# Altium schematic symbol library i2c_io_expander.SchLib: 80 symbols (part 2 of 3)
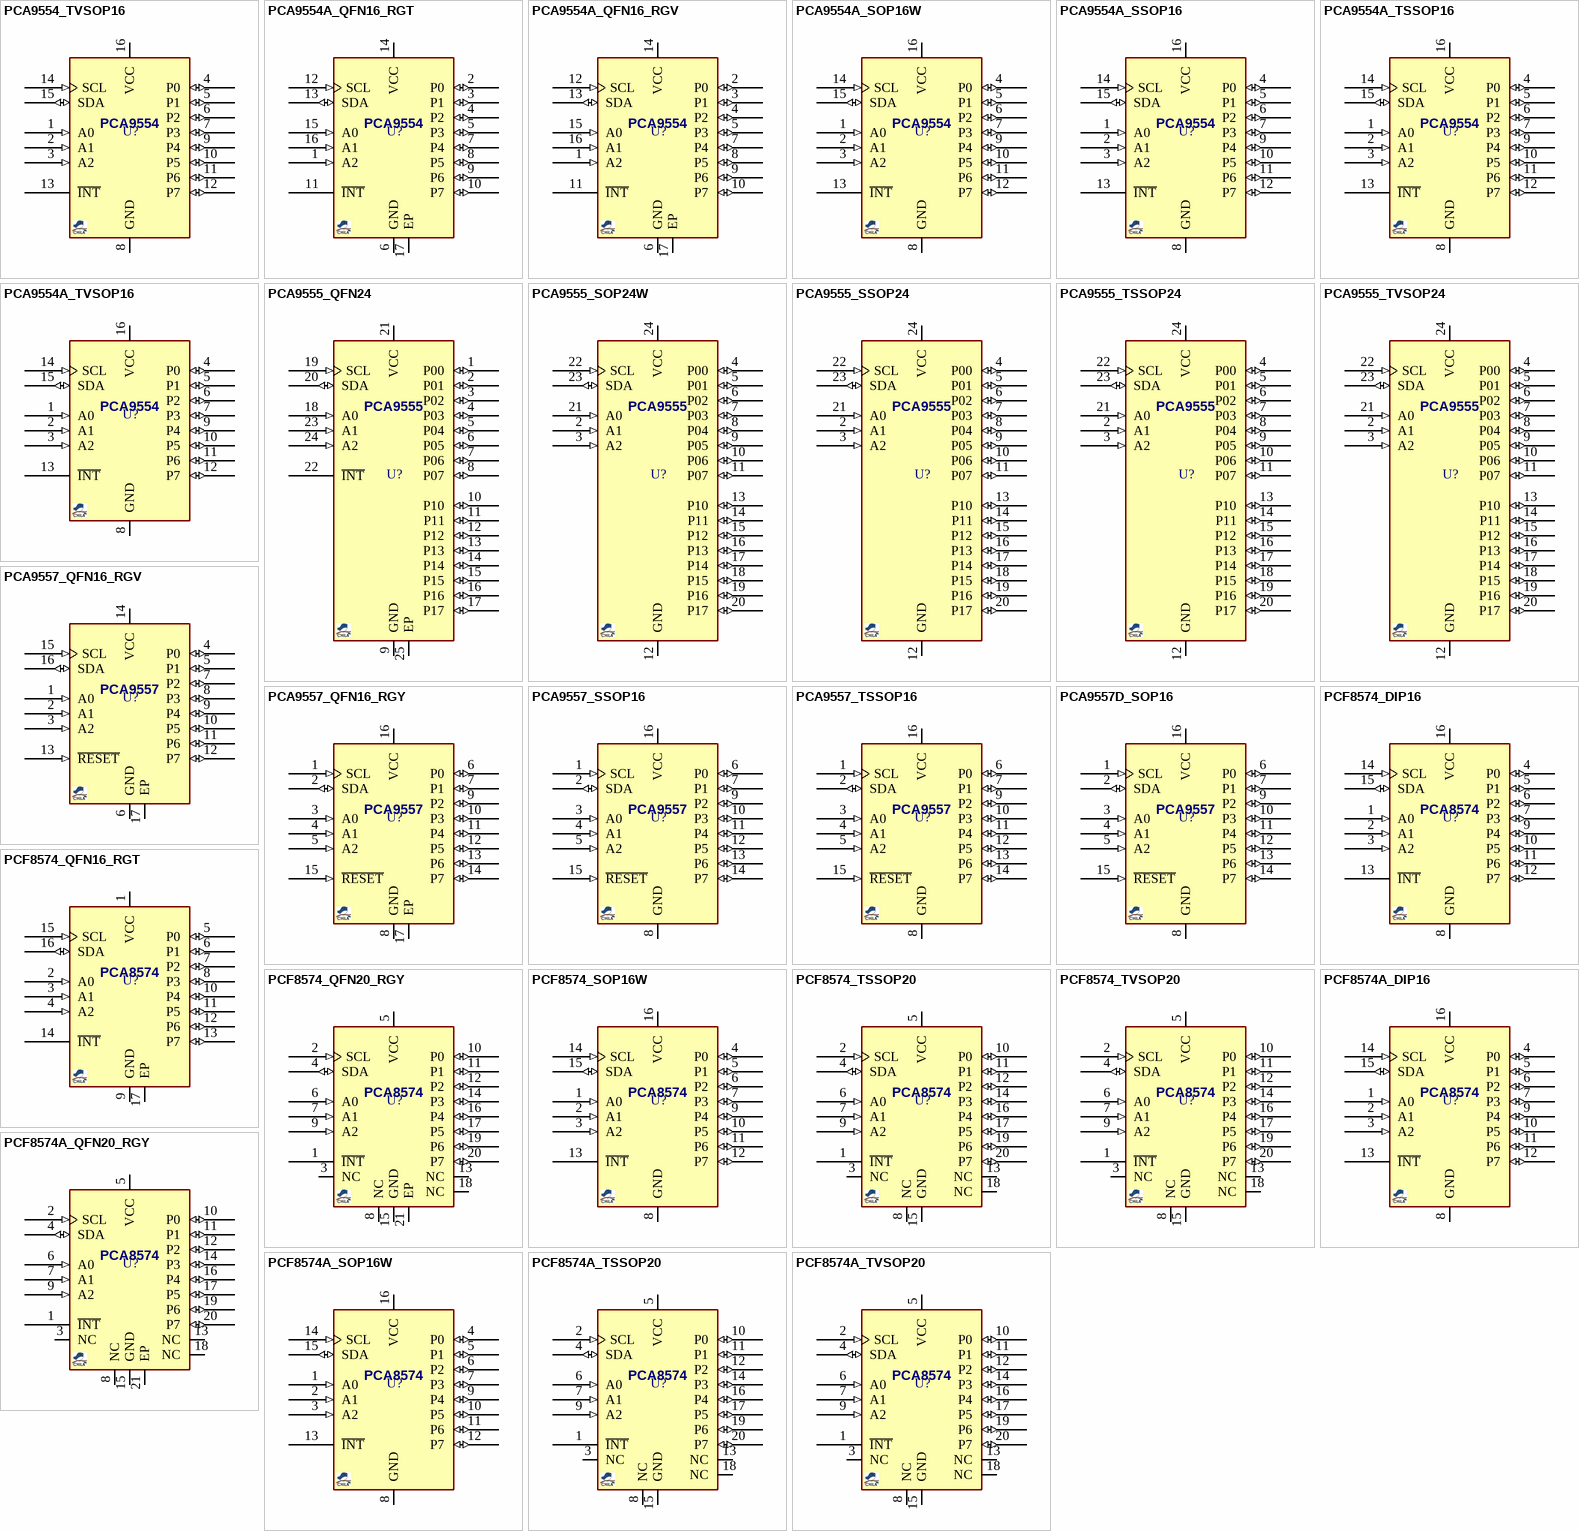
[diagram p4: symbols PCA9554_TVSOP16 to PCF8574A_TVSOP20]

## PCA9555_TSSOP24
designator U?, comment PCA9555  (value not drawn)
IC, I2C IO Expander, 16CH, 5V TOL, 400KHz; MANF: Texas Instruments; MANF_P#: PCA9555PW; PARAM2: 2.3~5.5VCC; PARAM: 16CH, 5V TOL, 400KHz, -40~85oC; VALUE: PCA9555
footprint SOG65_24 (PW TSSOP (TI), MO-153-AD (JEDEC), 24Lead, pitch: 0.65mm, 8x4.4x1.2mm)
pins: 2 A1 (in) "Address input 1. Connect directly to VCC or ground.", 3 A2 (in) "Address input 2. Connect directly to VCC or ground.", 4 P00 (io) "P-port input/output. Push-pull design structure.", 5 P01 (io) "P-port input/output. Push-pull design structure.", 6 P02 (io) "P-port input/output. Push-pull design structure.", 7 P03 (io) "P-port input/output. Push-pull design structure.", 8 P04 (io) "P-port input/output. Push-pull design structure.", 9 P05 (io) "P-port input/output. Push-pull design structure.", 10 P06 (io) "P-port input/output. Push-pull design structure.", 11 P07 (io) "P-port input/output. Push-pull design structure.", 12 GND (power) "Ground", 13 P10 (io) "P-port input/output. Push-pull design structure.", 14 P11 (io) "P-port input/output. Push-pull design structure.", 15 P12 (io) "P-port input/output. Push-pull design structure.", 16 P13 (io) "P-port input/output. Push-pull design structure.", 17 P14 (io) "P-port input/output. Push-pull design structure.", 18 P15 (io) "P-port input/output. Push-pull design structure.", 19 P16 (io) "P-port input/output. Push-pull design structure.", 20 P17 (io) "P-port input/output. Push-pull design structure.", 21 A0 (in) "Address input 0. Connect directly to VCC or ground.", 22 SCL (in) "Serial clock bus. Connect to VCC through a pullup resistor.", 23 SDA (io) "Serial data bus. Connect to VCC through a pullup resistor.", 24 VCC (power) "Supply voltage"

## PCA9555_TVSOP24
designator U?, comment PCA9555  (value not drawn)
IC, I2C IO Expander, 16CH, 5V TOL, 400KHz; MANF: Texas Instruments; MANF_P#: PCA9555DGV; PARAM2: 2.3~5.5VCC; PARAM: 16CH, 5V TOL, 400KHz, -40~85oC; VALUE: PCA9555
footprint SOG40_24
pins: 2 A1 (in) "Address input 1. Connect directly to VCC or ground.", 3 A2 (in) "Address input 2. Connect directly to VCC or ground.", 4 P00 (io) "P-port input/output. Push-pull design structure.", 5 P01 (io) "P-port input/output. Push-pull design structure.", 6 P02 (io) "P-port input/output. Push-pull design structure.", 7 P03 (io) "P-port input/output. Push-pull design structure.", 8 P04 (io) "P-port input/output. Push-pull design structure.", 9 P05 (io) "P-port input/output. Push-pull design structure.", 10 P06 (io) "P-port input/output. Push-pull design structure.", 11 P07 (io) "P-port input/output. Push-pull design structure.", 12 GND (power) "Ground", 13 P10 (io) "P-port input/output. Push-pull design structure.", 14 P11 (io) "P-port input/output. Push-pull design structure.", 15 P12 (io) "P-port input/output. Push-pull design structure.", 16 P13 (io) "P-port input/output. Push-pull design structure.", 17 P14 (io) "P-port input/output. Push-pull design structure.", 18 P15 (io) "P-port input/output. Push-pull design structure.", 19 P16 (io) "P-port input/output. Push-pull design structure.", 20 P17 (io) "P-port input/output. Push-pull design structure.", 21 A0 (in) "Address input 0. Connect directly to VCC or ground.", 22 SCL (in) "Serial clock bus. Connect to VCC through a pullup resistor.", 23 SDA (io) "Serial data bus. Connect to VCC through a pullup resistor.", 24 VCC (power) "Supply voltage"

## PCA9557_QFN16_RGV
designator U?, comment PCA9557  (value not drawn)
IC, I2C IO Expander, 8CH, 5V TOL, 400KHz; MANF: Texas Instruments; MANF_P#: PCA9557RGV; PARAM2: 2.3~5.5VCC; PARAM: 8CH, 5V TOL, 400KHz, -40~85oC; VALUE: PCA9557
footprint QFN65_16T (MO-220 VGGC, MO-220 WGGC-4(JEDEC), 4X4mm, 0.65mm)
pins: 1 A0 (in) "Address input. Connect directly to VCC or ground.", 2 A1 (in) "Address input. Connect directly to VCC or ground.", 3 A2 (in) "Address input. Connect directly to VCC or ground.", 4 P0 (io) "P-port input/output. High impedance open-drain design structure. Connect to VCC through a pullup resistor.", 5 P1 (io) "P-port input/output. Push-pull design structure.", 6 GND (power) "Ground", 7 P2 (io) "P-port input/output. Push-pull design structure.", 8 P3 (io) "P-port input/output. Push-pull design structure.", 9 P4 (io) "P-port input/output. Push-pull design structure.", 10 P5 (io) "P-port input/output. Push-pull design structure.", 11 P6 (io) "P-port input/output. Push-pull design structure.", 12 P7 (io) "P-port input/output. Push-pull design structure.", 13 ~{RESET} (in) "Active-low reset input. Connect to VCC  through a pullup resistor, if no active connection is used.", 14 VCC (power) "Supply voltage", 15 SCL (in) "Serial clock bus. Connect to VCC through a pullup resistor.", 16 SDA (io) "Serial data bus. Connect to VCC through a pullup resistor.", 17 EP "Exposed thermal pad"

## PCA9557_QFN16_RGY
designator U?, comment PCA9557  (value not drawn)
IC, I2C IO Expander, 8CH, 5V TOL, 400KHz; MANF: Texas Instruments; MANF_P#: PCA9557RGY; PARAM2: 2.3~5.5VCC; PARAM: 8CH, 5V TOL, 400KHz, -40~85oC; VALUE: PCA9557
footprint QFN50_16T_4X3 (VQFN-16 RGY 4X3.5mm, 0.5mm pitch)
pins: 1 SCL (in) "Serial clock bus. Connect to VCC through a pullup resistor.", 2 SDA (io) "Serial data bus. Connect to VCC through a pullup resistor", 3 A0 (in) "Address input. Connect directly to VCC or ground.", 4 A1 (in) "Address input. Connect directly to VCC or ground.", 5 A2 (in) "Address input. Connect directly to VCC or ground.", 6 P0 (io) "P-port input/output. High impedance open-drain design structure. Connect to VCC through a pullup resistor.", 7 P1 (io) "P-port input/output. Push-pull design structure.", 8 GND (power) "Ground", 9 P2 (io) "P-port input/output. Push-pull design structure", 10 P3 (io) "P-port input/output. Push-pull design structure", 11 P4 (io) "P-port input/output. Push-pull design structure", 12 P5 (io) "P-port input/output. Push-pull design structure", 13 P6 (io) "P-port input/output. Push-pull design structure", 14 P7 (io) "P-port input/output. Push-pull design structure", 15 ~{RESET} (in) "Active-low reset input. Connect to VCC through a pullup resistor if no active connection is used.", 16 VCC (power) "Supply voltage", 17 EP "Exposed pad"

## PCA9557_SSOP16
designator U?, comment PCA9557  (value not drawn)
IC, I2C IO Expander, 8CH, 5V TOL, 400KHz; MANF: Texas Instruments; MANF_P#: PCA9557DB; PARAM2: 2.3~5.5VCC; PARAM: 8CH, 5V TOL, 400KHz, -40~85oC; VALUE: PCA9557
footprint SOG65_16_W (SSOP16, SOT338-1, SOT403-1, RU-16, pitch: 0.65mm, 6x5.3mm, GN16, MO-150AC)
pins: 1 SCL (in) "Serial clock bus. Connect to VCC through a pullup resistor.", 2 SDA (io) "Serial data bus. Connect to VCC through a pullup resistor.", 3 A0 (in) "Address input. Connect directly to VCC or ground.", 4 A1 (in) "Address input. Connect directly to VCC or ground.", 5 A2 (in) "Address input. Connect directly to VCC or ground.", 6 P0 (io) "P-port input/output. High impedance open-drain design structure. Connect to VCC through a pullup resistor.", 7 P1 (io) "P-port input/output. Push-pull design structure.", 8 GND (power) "Ground", 9 P2 (io) "P-port input/output. Push-pull design structure.", 10 P3 (io) "P-port input/output. Push-pull design structure.", 11 P4 (io) "P-port input/output. Push-pull design structure.", 12 P5 (io) "P-port input/output. Push-pull design structure.", 13 P6 (io) "P-port input/output. Push-pull design structure.", 14 P7 (io) "P-port input/output. Push-pull design structure.", 15 ~{RESET} (in) "Active-low reset input. Connect to VCC  through a pullup resistor, if no active connection is used.", 16 VCC (power) "Supply voltage"

## PCA9557_TSSOP16
designator U?, comment PCA9557  (value not drawn)
IC, I2C IO Expander, 8CH, 5V TOL, 400KHz; MANF: Texas Instruments; MANF_P#: PCA9557PW; PARAM2: 2.3~5.5VCC; PARAM: 8CH, 5V TOL, 400KHz, -40~85oC; VALUE: PCA9557
footprint SOG65_16 (PW TSSOP (TI), MO-153-AB (JEDEC), 16Lead, pitch: 0.65mm, 5x4.4x1.2mm)
pins: 1 SCL (in) "Serial clock bus. Connect to VCC through a pullup resistor.", 2 SDA (io) "Serial data bus. Connect to VCC through a pullup resistor.", 3 A0 (in) "Address input. Connect directly to VCC or ground.", 4 A1 (in) "Address input. Connect directly to VCC or ground.", 5 A2 (in) "Address input. Connect directly to VCC or ground.", 6 P0 (io) "P-port input/output. High impedance open-drain design structure. Connect to VCC through a pullup resistor.", 7 P1 (io) "P-port input/output. Push-pull design structure.", 8 GND (power) "Ground", 9 P2 (io) "P-port input/output. Push-pull design structure.", 10 P3 (io) "P-port input/output. Push-pull design structure.", 11 P4 (io) "P-port input/output. Push-pull design structure.", 12 P5 (io) "P-port input/output. Push-pull design structure.", 13 P6 (io) "P-port input/output. Push-pull design structure.", 14 P7 (io) "P-port input/output. Push-pull design structure.", 15 ~{RESET} (in) "Active-low reset input. Connect to VCC  through a pullup resistor, if no active connection is used.", 16 VCC (power) "Supply voltage"

## PCA9557D_SOP16
designator U?, comment PCA9557  (value not drawn)
IC, I2C IO Expander, 8CH, 5V TOL, 400KHz; MANF: Texas Instruments; MANF_P#: PCA9557D; PARAM2: 2.3~5.5VCC; PARAM: 8CH, 5V TOL, 400KHz, -40~85oC; VALUE: PCA9557
footprint SO_16 (SOP, SOIC, 3.9mm width, 1.27mm pitch,)
pins: 1 SCL (in) "Serial clock bus. Connect to VCC through a pullup resistor.", 2 SDA (io) "Serial data bus. Connect to VCC through a pullup resistor.", 3 A0 (in) "Address input. Connect directly to VCC or ground.", 4 A1 (in) "Address input. Connect directly to VCC or ground.", 5 A2 (in) "Address input. Connect directly to VCC or ground.", 6 P0 (io) "P-port input/output. High impedance open-drain design structure. Connect to VCC through a pullup resistor.", 7 P1 (io) "P-port input/output. Push-pull design structure.", 8 GND (power) "Ground", 9 P2 (io) "P-port input/output. Push-pull design structure.", 10 P3 (io) "P-port input/output. Push-pull design structure.", 11 P4 (io) "P-port input/output. Push-pull design structure.", 12 P5 (io) "P-port input/output. Push-pull design structure.", 13 P6 (io) "P-port input/output. Push-pull design structure.", 14 P7 (io) "P-port input/output. Push-pull design structure.", 15 ~{RESET} (in) "Active-low reset input. Connect to VCC  through a pullup resistor, if no active connection is used.", 16 VCC (power) "Supply voltage"

## PCF8574_DIP16
designator U?, comment PCF8574  (value not drawn)
IC, I2C IO Expander, 8CH, 100KHz; MANF: Texas Instruments; MANF_P#: PCF8574N; PARAM2: 2.5~6.0VCC; PARAM: 8CH, 100KHz, -40~85oC; VALUE: PCF8574
footprint DIP_16 (DIP, pitch 2.54mm, 300mil Width)
pins: 1 A0 (in), 2 A1 (in), 3 A2 (in), 4 P0 (io), 5 P1 (io), 6 P2 (io), 7 P3 (io), 8 GND (power) "Ground", 9 P4 (io), 10 P5 (io), 11 P6 (io), 12 P7 (io), 13 ~{INT} (oc), 14 SCL (in), 15 SDA (io), 16 VCC (power) "Supply voltage"
text: PCA8574

## PCF8574_QFN16_RGT
designator U?, comment PCF8574  (value not drawn)
IC, I2C IO Expander, 8CH, 100KHz; MANF: Texas Instruments; MANF_P#: PCF8574RGT; PARAM2: 2.5~6.0VCC; PARAM: 8CH, 100KHz, -40~85oC; VALUE: PCF8574
footprint QFN50_16_3X3 (LPCC, 16-lead, pitch: 0.5mm, 3x3mm)
pins: 1 VCC (power), 2 A0 (in), 3 A1 (in), 4 A2 (in), 5 P0 (io), 6 P1 (io), 7 P2 (io), 8 P3 (io), 9 GND (power), 10 P4 (io), 11 P5 (io), 12 P6 (io), 13 P7 (io), 14 ~{INT} (oc), 15 SCL (in), 16 SDA (io), 17 EP
text: PCA8574

## PCF8574_QFN20_RGY
designator U?, comment PCF8574  (value not drawn)
IC, I2C IO Expander, 8CH, 100KHz; MANF: Texas Instruments; MANF_P#: PCF8574RGY; PARAM2: 2.5~6.0VCC; PARAM: 8CH, 100KHz, -40~85oC; VALUE: PCF8574
footprint QFN50_20T_4X3 (RGY VQFN-20, 0.5mm Pitch, 4.5x3.5x1mm)
pins: 1 ~{INT} (oc), 2 SCL (in), 3 NC, 4 SDA (io), 5 VCC (power), 6 A0 (in), 7 A1 (in), 8 NC, 9 A2 (in), 10 P0 (io), 11 P1 (io), 12 P2 (io), 13 NC, 14 P3 (io), 15 GND (power), 16 P4 (io), 17 P5 (io), 18 NC, 19 P6 (io), 20 P7 (io), 21 EP
text: PCA8574

## PCF8574_SOP16W
designator U?, comment PCF8574  (value not drawn)
IC, I2C IO Expander, 8CH, 100KHz; MANF: Texas Instruments; MANF_P#: PCF8574DW; PARAM2: 2.5~6.0VCC; PARAM: 8CH, 100KHz, -40~85oC; VALUE: PCF8574
footprint SO_16_W (SOP, SOIC, 7.5mm width, 1.27mm pitch,)
pins: 1 A0 (in), 2 A1 (in), 3 A2 (in), 4 P0 (io), 5 P1 (io), 6 P2 (io), 7 P3 (io), 8 GND (power) "Ground", 9 P4 (io), 10 P5 (io), 11 P6 (io), 12 P7 (io), 13 ~{INT} (oc), 14 SCL (in), 15 SDA (io), 16 VCC (power) "Supply voltage"
text: PCA8574

## PCF8574_TSSOP20
designator U?, comment PCF8574  (value not drawn)
IC, I2C IO Expander, 8CH, 100KHz; MANF: Texas Instruments; MANF_P#: PCF8574PW; PARAM2: 2.5~6.0VCC; PARAM: 8CH, 100KHz, -40~85oC; VALUE: PCF8574
footprint SOG65_20 (PW TSSOP (TI), MO-153-AC (JEDEC), 20Lead, pitch: 0.65mm, 6.5x4.4x1.2mm)
pins: 1 ~{INT} (oc), 2 SCL (in), 3 NC, 4 SDA (io), 5 VCC (power), 6 A0 (in), 7 A1 (in), 8 NC, 9 A2 (in), 10 P0 (io), 11 P1 (io), 12 P2 (io), 13 NC, 14 P3 (io), 15 GND (power), 16 P4 (io), 17 P5 (io), 18 NC, 19 P6 (io), 20 P7 (io)
text: PCA8574

## PCF8574_TVSOP20
designator U?, comment PCF8574  (value not drawn)
IC, I2C IO Expander, 8CH, 100KHz; MANF: Texas Instruments; MANF_P#: PCF8574DGV; PARAM2: 2.5~6.0VCC; PARAM: 8CH, 100KHz, -40~85oC; VALUE: PCF8574
footprint SOG40_20
pins: 1 ~{INT} (oc), 2 SCL (in), 3 NC, 4 SDA (io), 5 VCC (power), 6 A0 (in), 7 A1 (in), 8 NC, 9 A2 (in), 10 P0 (io), 11 P1 (io), 12 P2 (io), 13 NC, 14 P3 (io), 15 GND (power), 16 P4 (io), 17 P5 (io), 18 NC, 19 P6 (io), 20 P7 (io)
text: PCA8574

## PCF8574A_DIP16
designator U?, comment PCF8574  (value not drawn)
IC, I2C IO Expander, 8CH, 100KHz; MANF: Texas Instruments; MANF_P#: PCF8574AN; PARAM2: 2.5~6.0VCC; PARAM: 8CH, 100KHz, -40~85oC; VALUE: PCF8574
footprint DIP_16 (DIP, pitch 2.54mm, 300mil Width)
pins: 1 A0 (in), 2 A1 (in), 3 A2 (in), 4 P0 (io), 5 P1 (io), 6 P2 (io), 7 P3 (io), 8 GND (power) "Ground", 9 P4 (io), 10 P5 (io), 11 P6 (io), 12 P7 (io), 13 ~{INT} (oc), 14 SCL (in), 15 SDA (io), 16 VCC (power) "Supply voltage"
text: PCA8574

## PCF8574A_QFN20_RGY
designator U?, comment PCF8574  (value not drawn)
IC, I2C IO Expander, 8CH, 100KHz; MANF: Texas Instruments; MANF_P#: PCF8574ARGY; PARAM2: 2.5~6.0VCC; PARAM: 8CH, 100KHz, -40~85oC; VALUE: PCF8574
footprint QFN50_20T_4X3 (RGY VQFN-20, 0.5mm Pitch, 4.5x3.5x1mm)
pins: 1 ~{INT} (oc), 2 SCL (in), 3 NC, 4 SDA (io), 5 VCC (power), 6 A0 (in), 7 A1 (in), 8 NC, 9 A2 (in), 10 P0 (io), 11 P1 (io), 12 P2 (io), 13 NC, 14 P3 (io), 15 GND (power), 16 P4 (io), 17 P5 (io), 18 NC, 19 P6 (io), 20 P7 (io), 21 EP
text: PCA8574

## PCF8574A_SOP16W
designator U?, comment PCF8574  (value not drawn)
IC, I2C IO Expander, 8CH, 100KHz; MANF: Texas Instruments; MANF_P#: PCF8574ADW; PARAM2: 2.5~6.0VCC; PARAM: 8CH, 100KHz, -40~85oC; VALUE: PCF8574
footprint SO_16_W (SOP, SOIC, 7.5mm width, 1.27mm pitch,)
pins: 1 A0 (in), 2 A1 (in), 3 A2 (in), 4 P0 (io), 5 P1 (io), 6 P2 (io), 7 P3 (io), 8 GND (power) "Ground", 9 P4 (io), 10 P5 (io), 11 P6 (io), 12 P7 (io), 13 ~{INT} (oc), 14 SCL (in), 15 SDA (io), 16 VCC (power) "Supply voltage"
text: PCA8574

## PCF8574A_TSSOP20
designator U?, comment PCF8574  (value not drawn)
IC, I2C IO Expander, 8CH, 100KHz; MANF: Texas Instruments; MANF_P#: PCF8574APW; PARAM2: 2.5~6.0VCC; PARAM: 8CH, 100KHz, -40~85oC; VALUE: PCF8574
footprint SOG65_20 (PW TSSOP (TI), MO-153-AC (JEDEC), 20Lead, pitch: 0.65mm, 6.5x4.4x1.2mm)
pins: 1 ~{INT} (oc), 2 SCL (in), 3 NC, 4 SDA (io), 5 VCC (power), 6 A0 (in), 7 A1 (in), 8 NC, 9 A2 (in), 10 P0 (io), 11 P1 (io), 12 P2 (io), 13 NC, 14 P3 (io), 15 GND (power), 16 P4 (io), 17 P5 (io), 18 NC, 19 P6 (io), 20 P7 (io)
text: PCA8574

## PCF8574A_TVSOP20
designator U?, comment PCF8574  (value not drawn)
IC, I2C IO Expander, 8CH, 100KHz; MANF: Texas Instruments; MANF_P#: PCF8574ADGV; PARAM2: 2.5~6.0VCC; PARAM: 8CH, 100KHz, -40~85oC; VALUE: PCF8574
footprint SOG40_20
pins: 1 ~{INT} (oc), 2 SCL (in), 3 NC, 4 SDA (io), 5 VCC (power), 6 A0 (in), 7 A1 (in), 8 NC, 9 A2 (in), 10 P0 (io), 11 P1 (io), 12 P2 (io), 13 NC, 14 P3 (io), 15 GND (power), 16 P4 (io), 17 P5 (io), 18 NC, 19 P6 (io), 20 P7 (io)
text: PCA8574

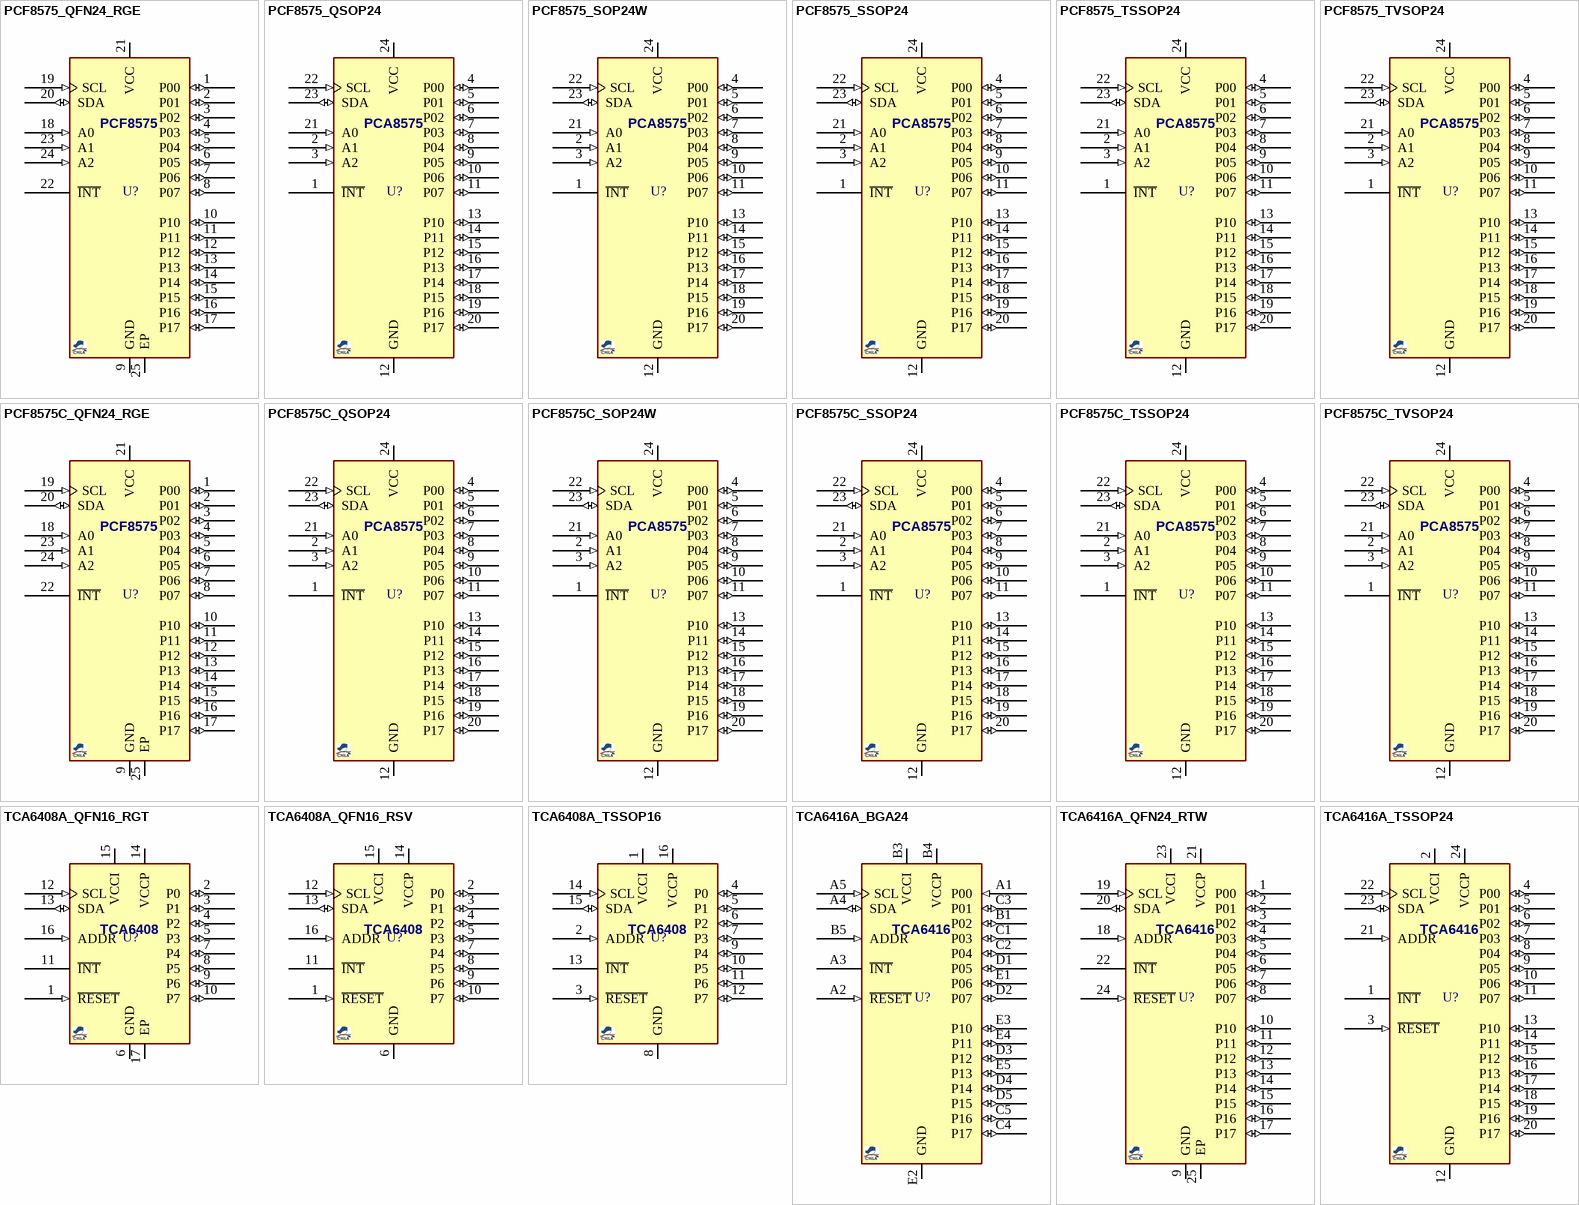
[diagram p2: symbols PCF8575_QFN24_RGE to TCA6416A_TSSOP24]

## PCF8575_QFN24_RGE
designator U?, comment PCF8575  (value not drawn)
IC, I2C IO Expander, 16CH, 400KHz; MANF: Texas Instruments; MANF_P#: PCF8575RGE; PARAM2: 2.5~5.5VCC; PARAM: 16CH, 400KHz, -40~85oC; VALUE: PCF8575
footprint QFN50_24T (MO-220 (JEDEC), RGE S-PQFP-N24 (TI), 4X4mm, 0.5mm, HVQFN24)
pins: 1 P00 (io) "P-port input/output. Push-pull design structure.Connect to VCC through a pullup resistor.", 2 P01 (io) "P-port input/output. Push-pull design structure.Connect to VCC through a pullup resistor.", 3 P02 (io) "P-port input/output. Push-pull design structure.Connect to VCC through a pullup resistor.", 4 P03 (io) "P-port input/output. Push-pull design structure.Connect to VCC through a pullup resistor.", 5 P04 (io) "P-port input/output. Push-pull design structure.Connect to VCC through a pullup resistor.", 6 P05 (io) "P-port input/output. Push-pull design structure.Connect to VCC through a pullup resistor.", 7 P06 (io) "P-port input/output. Push-pull design structure.Connect to VCC through a pullup resistor.", 8 P07 (io) "P-port input/output. Push-pull design structure.Connect to VCC through a pullup resistor.", 9 GND (power) "Ground", 10 P10 (io) "P-port input/output. Push-pull design structure.Connect to VCC through a pullup resistor.", 11 P11 (io) "P-port input/output. Push-pull design structure.Connect to VCC through a pullup resistor.", 12 P12 (io) "P-port input/output. Push-pull design structure.Connect to VCC through a pullup resistor.", 13 P13 (io) "P-port input/output. Push-pull design structure.Connect to VCC through a pullup resistor.", 14 P14 (io) "P-port input/output. Push-pull design structure.Connect to VCC through a pullup resistor.", 15 P15 (io) "P-port input/output. Push-pull design structure.Connect to VCC through a pullup resistor.", 16 P16 (io) "P-port input/output. Push-pull design structure.Connect to VCC through a pullup resistor.", 17 P17 (io) "P-port input/output. Push-pull design structure.Connect to VCC through a pullup resistor.", 18 A0 (in) "Address input 0. Connect directly to VCC or ground. Pullup resistors are not needed.", 19 SCL (in) "Serial clock line. Connect to VCC through a pullup resistor.", 20 SDA (io) "Serial data line. Connect to VCC through a pullup resistor.", 21 VCC (power) "Supply voltage", 22 ~{INT} (oc) "Interrupt output. Connect to VCC through a pullup resistor.", 23 A1 (in) "Address input 1. Connect directly to VCC or ground. Pullup resistors are not needed.", 24 A2 (in) "Address input 2. Connect directly to VCC or ground. Pullup resistors are not needed.", 25 EP "Exposed thermal pad"

## PCF8575_QSOP24
designator U?, comment PCF8575  (value not drawn)
IC, I2C IO Expander, 16CH, 400KHz; MANF: Texas Instruments; MANF_P#: PCF8575DBQ; PARAM2: 2.5~5.5VCC; PARAM: 16CH, 400KHz, -40~85oC; VALUE: PCF8575
footprint SOG63_24 (QSOP24, 8.6X3.9mm, 0.635mm pitch)
pins: 1 ~{INT} (oc) "Interrupt output. Connect to VCC through a pullup resistor.", 2 A1 (in) "Address input 1. Connect directly to VCC or ground. Pullup resistors are not needed.", 3 A2 (in) "Address input 2. Connect directly to VCC or ground. Pullup resistors are not needed.", 4 P00 (io) "P-port input/output. Push-pull design structure.Connect to VCC through a pullup resistor.", 5 P01 (io) "P-port input/output. Push-pull design structure.Connect to VCC through a pullup resistor.", 6 P02 (io) "P-port input/output. Push-pull design structure.Connect to VCC through a pullup resistor.", 7 P03 (io) "P-port input/output. Push-pull design structure.Connect to VCC through a pullup resistor.", 8 P04 (io) "P-port input/output. Push-pull design structure.Connect to VCC through a pullup resistor.", 9 P05 (io) "P-port input/output. Push-pull design structure.Connect to VCC through a pullup resistor.", 10 P06 (io) "P-port input/output. Push-pull design structure.Connect to VCC through a pullup resistor.", 11 P07 (io) "P-port input/output. Push-pull design structure.Connect to VCC through a pullup resistor.", 12 GND (power) "Ground", 13 P10 (io) "P-port input/output. Push-pull design structure.Connect to VCC through a pullup resistor.", 14 P11 (io) "P-port input/output. Push-pull design structure.Connect to VCC through a pullup resistor.", 15 P12 (io) "P-port input/output. Push-pull design structure.Connect to VCC through a pullup resistor.", 16 P13 (io) "P-port input/output. Push-pull design structure.Connect to VCC through a pullup resistor.", 17 P14 (io) "P-port input/output. Push-pull design structure.Connect to VCC through a pullup resistor.", 18 P15 (io) "P-port input/output. Push-pull design structure.Connect to VCC through a pullup resistor.", 19 P16 (io) "P-port input/output. Push-pull design structure.Connect to VCC through a pullup resistor.", 20 P17 (io) "P-port input/output. Push-pull design structure.Connect to VCC through a pullup resistor.", 21 A0 (in) "Address input 0. Connect directly to V CC or ground. Pullup resistors are not needed", 22 SCL (in) "Serial clock line. Connect to VCC through a pullup resistor.", 23 SDA (io) "Serial data line. Connect to VCC through a pullup resistor.", 24 VCC (power) "Supply voltage"
text: PCA8575

## PCF8575_SOP24W
designator U?, comment PCF8575  (value not drawn)
IC, I2C IO Expander, 16CH, 400KHz; MANF: Texas Instruments; MANF_P#: PCF8575DW; PARAM2: 2.5~5.5VCC; PARAM: 16CH, 400KHz, -40~85oC; VALUE: PCF8575
footprint SO_24_W (SOP, SOIC, 7.5mm width, 1.27mm pitch,)
pins: 1 ~{INT} (oc) "Interrupt output. Connect to VCC through a pullup resistor.", 2 A1 (in) "Address input 1. Connect directly to VCC or ground. Pullup resistors are not needed.", 3 A2 (in) "Address input 2. Connect directly to VCC or ground. Pullup resistors are not needed.", 4 P00 (io) "P-port input/output. Push-pull design structure.Connect to VCC through a pullup resistor.", 5 P01 (io) "P-port input/output. Push-pull design structure.Connect to VCC through a pullup resistor.", 6 P02 (io) "P-port input/output. Push-pull design structure.Connect to VCC through a pullup resistor.", 7 P03 (io) "P-port input/output. Push-pull design structure.Connect to VCC through a pullup resistor.", 8 P04 (io) "P-port input/output. Push-pull design structure.Connect to VCC through a pullup resistor.", 9 P05 (io) "P-port input/output. Push-pull design structure.Connect to VCC through a pullup resistor.", 10 P06 (io) "P-port input/output. Push-pull design structure.Connect to VCC through a pullup resistor.", 11 P07 (io) "P-port input/output. Push-pull design structure.Connect to VCC through a pullup resistor.", 12 GND (power) "Ground", 13 P10 (io) "P-port input/output. Push-pull design structure.Connect to VCC through a pullup resistor.", 14 P11 (io) "P-port input/output. Push-pull design structure.Connect to VCC through a pullup resistor.", 15 P12 (io) "P-port input/output. Push-pull design structure.Connect to VCC through a pullup resistor.", 16 P13 (io) "P-port input/output. Push-pull design structure.Connect to VCC through a pullup resistor.", 17 P14 (io) "P-port input/output. Push-pull design structure.Connect to VCC through a pullup resistor.", 18 P15 (io) "P-port input/output. Push-pull design structure.Connect to VCC through a pullup resistor.", 19 P16 (io) "P-port input/output. Push-pull design structure.Connect to VCC through a pullup resistor.", 20 P17 (io) "P-port input/output. Push-pull design structure.Connect to VCC through a pullup resistor.", 21 A0 (in) "Address input 0. Connect directly to V CC or ground. Pullup resistors are not needed", 22 SCL (in) "Serial clock line. Connect to VCC through a pullup resistor.", 23 SDA (io) "Serial data line. Connect to VCC through a pullup resistor.", 24 VCC (power) "Supply voltage"
text: PCA8575

## PCF8575_SSOP24
designator U?, comment PCF8575  (value not drawn)
IC, I2C IO Expander, 16CH, 400KHz; MANF: Texas Instruments; MANF_P#: PCF8575DBR; PARAM2: 2.5~5.5VCC; PARAM: 16CH, 400KHz, -40~85oC; VALUE: PCF8575
footprint SOG65_24_W (SSOP24, TSSOP24, SOT340-1, SOT355-1, MO-150AG, MO-153AD(JEDEC),)
pins: 1 ~{INT} (oc) "Interrupt output. Connect to VCC through a pullup resistor.", 2 A1 (in) "Address input 1. Connect directly to VCC or ground. Pullup resistors are not needed.", 3 A2 (in) "Address input 2. Connect directly to VCC or ground. Pullup resistors are not needed.", 4 P00 (io) "P-port input/output. Push-pull design structure.Connect to VCC through a pullup resistor.", 5 P01 (io) "P-port input/output. Push-pull design structure.Connect to VCC through a pullup resistor.", 6 P02 (io) "P-port input/output. Push-pull design structure.Connect to VCC through a pullup resistor.", 7 P03 (io) "P-port input/output. Push-pull design structure.Connect to VCC through a pullup resistor.", 8 P04 (io) "P-port input/output. Push-pull design structure.Connect to VCC through a pullup resistor.", 9 P05 (io) "P-port input/output. Push-pull design structure.Connect to VCC through a pullup resistor.", 10 P06 (io) "P-port input/output. Push-pull design structure.Connect to VCC through a pullup resistor.", 11 P07 (io) "P-port input/output. Push-pull design structure.Connect to VCC through a pullup resistor.", 12 GND (power) "Ground", 13 P10 (io) "P-port input/output. Push-pull design structure.Connect to VCC through a pullup resistor.", 14 P11 (io) "P-port input/output. Push-pull design structure.Connect to VCC through a pullup resistor.", 15 P12 (io) "P-port input/output. Push-pull design structure.Connect to VCC through a pullup resistor.", 16 P13 (io) "P-port input/output. Push-pull design structure.Connect to VCC through a pullup resistor.", 17 P14 (io) "P-port input/output. Push-pull design structure.Connect to VCC through a pullup resistor.", 18 P15 (io) "P-port input/output. Push-pull design structure.Connect to VCC through a pullup resistor.", 19 P16 (io) "P-port input/output. Push-pull design structure.Connect to VCC through a pullup resistor.", 20 P17 (io) "P-port input/output. Push-pull design structure.Connect to VCC through a pullup resistor.", 21 A0 (in) "Address input 0. Connect directly to V CC or ground. Pullup resistors are not needed", 22 SCL (in) "Serial clock line. Connect to VCC through a pullup resistor.", 23 SDA (io) "Serial data line. Connect to VCC through a pullup resistor.", 24 VCC (power) "Supply voltage"
text: PCA8575

## PCF8575_TSSOP24
designator U?, comment PCF8575  (value not drawn)
IC, I2C IO Expander, 16CH, 400KHz; MANF: Texas Instruments; MANF_P#: PCF8575PW; PARAM2: 2.5~5.5VCC; PARAM: 16CH, 400KHz, -40~85oC; VALUE: PCF8575
footprint SOG65_24 (PW TSSOP (TI), MO-153-AD (JEDEC), 24Lead, pitch: 0.65mm, 8x4.4x1.2mm)
pins: 1 ~{INT} (oc) "Interrupt output. Connect to VCC through a pullup resistor.", 2 A1 (in) "Address input 1. Connect directly to VCC or ground. Pullup resistors are not needed.", 3 A2 (in) "Address input 2. Connect directly to VCC or ground. Pullup resistors are not needed.", 4 P00 (io) "P-port input/output. Push-pull design structure.Connect to VCC through a pullup resistor.", 5 P01 (io) "P-port input/output. Push-pull design structure.Connect to VCC through a pullup resistor.", 6 P02 (io) "P-port input/output. Push-pull design structure.Connect to VCC through a pullup resistor.", 7 P03 (io) "P-port input/output. Push-pull design structure.Connect to VCC through a pullup resistor.", 8 P04 (io) "P-port input/output. Push-pull design structure.Connect to VCC through a pullup resistor.", 9 P05 (io) "P-port input/output. Push-pull design structure.Connect to VCC through a pullup resistor.", 10 P06 (io) "P-port input/output. Push-pull design structure.Connect to VCC through a pullup resistor.", 11 P07 (io) "P-port input/output. Push-pull design structure.Connect to VCC through a pullup resistor.", 12 GND (power) "Ground", 13 P10 (io) "P-port input/output. Push-pull design structure.Connect to VCC through a pullup resistor.", 14 P11 (io) "P-port input/output. Push-pull design structure.Connect to VCC through a pullup resistor.", 15 P12 (io) "P-port input/output. Push-pull design structure.Connect to VCC through a pullup resistor.", 16 P13 (io) "P-port input/output. Push-pull design structure.Connect to VCC through a pullup resistor.", 17 P14 (io) "P-port input/output. Push-pull design structure.Connect to VCC through a pullup resistor.", 18 P15 (io) "P-port input/output. Push-pull design structure.Connect to VCC through a pullup resistor.", 19 P16 (io) "P-port input/output. Push-pull design structure.Connect to VCC through a pullup resistor.", 20 P17 (io) "P-port input/output. Push-pull design structure.Connect to VCC through a pullup resistor.", 21 A0 (in) "Address input 0. Connect directly to V CC or ground. Pullup resistors are not needed", 22 SCL (in) "Serial clock line. Connect to VCC through a pullup resistor.", 23 SDA (io) "Serial data line. Connect to VCC through a pullup resistor.", 24 VCC (power) "Supply voltage"
text: PCA8575

## PCF8575_TVSOP24
designator U?, comment PCF8575  (value not drawn)
IC, I2C IO Expander, 16CH, 400KHz; MANF: Texas Instruments; MANF_P#: PCF8575DGV; PARAM2: 2.5~5.5VCC; PARAM: 16CH, 400KHz, -40~85oC; VALUE: PCF8575
footprint SOG40_24
pins: 1 ~{INT} (oc) "Interrupt output. Connect to VCC through a pullup resistor.", 2 A1 (in) "Address input 1. Connect directly to VCC or ground. Pullup resistors are not needed.", 3 A2 (in) "Address input 2. Connect directly to VCC or ground. Pullup resistors are not needed.", 4 P00 (io) "P-port input/output. Push-pull design structure.Connect to VCC through a pullup resistor.", 5 P01 (io) "P-port input/output. Push-pull design structure.Connect to VCC through a pullup resistor.", 6 P02 (io) "P-port input/output. Push-pull design structure.Connect to VCC through a pullup resistor.", 7 P03 (io) "P-port input/output. Push-pull design structure.Connect to VCC through a pullup resistor.", 8 P04 (io) "P-port input/output. Push-pull design structure.Connect to VCC through a pullup resistor.", 9 P05 (io) "P-port input/output. Push-pull design structure.Connect to VCC through a pullup resistor.", 10 P06 (io) "P-port input/output. Push-pull design structure.Connect to VCC through a pullup resistor.", 11 P07 (io) "P-port input/output. Push-pull design structure.Connect to VCC through a pullup resistor.", 12 GND (power) "Ground", 13 P10 (io) "P-port input/output. Push-pull design structure.Connect to VCC through a pullup resistor.", 14 P11 (io) "P-port input/output. Push-pull design structure.Connect to VCC through a pullup resistor.", 15 P12 (io) "P-port input/output. Push-pull design structure.Connect to VCC through a pullup resistor.", 16 P13 (io) "P-port input/output. Push-pull design structure.Connect to VCC through a pullup resistor.", 17 P14 (io) "P-port input/output. Push-pull design structure.Connect to VCC through a pullup resistor.", 18 P15 (io) "P-port input/output. Push-pull design structure.Connect to VCC through a pullup resistor.", 19 P16 (io) "P-port input/output. Push-pull design structure.Connect to VCC through a pullup resistor.", 20 P17 (io) "P-port input/output. Push-pull design structure.Connect to VCC through a pullup resistor.", 21 A0 (in) "Address input 0. Connect directly to V CC or ground. Pullup resistors are not needed", 22 SCL (in) "Serial clock line. Connect to VCC through a pullup resistor.", 23 SDA (io) "Serial data line. Connect to VCC through a pullup resistor.", 24 VCC (power) "Supply voltage"
text: PCA8575

## PCF8575C_QFN24_RGE
designator U?, comment PCF8575  (value not drawn)
IC, I2C IO Expander, 16CH, 400KHz; MANF: Texas Instruments; MANF_P#: PCF8575CRGE; PARAM2: 4.5~5.5VCC; PARAM: 16CH, 400KHz, -40~85oC; VALUE: PCF8575
footprint QFN50_24T (MO-220 (JEDEC), RGE S-PQFP-N24 (TI), 4X4mm, 0.5mm, HVQFN24)
pins: 1 P00 (io) "P-port input/output. Push-pull design structure.Connect to VCC through a pullup resistor.", 2 P01 (io) "P-port input/output. Push-pull design structure.Connect to VCC through a pullup resistor.", 3 P02 (io) "P-port input/output. Push-pull design structure.Connect to VCC through a pullup resistor.", 4 P03 (io) "P-port input/output. Push-pull design structure.Connect to VCC through a pullup resistor.", 5 P04 (io) "P-port input/output. Push-pull design structure.Connect to VCC through a pullup resistor.", 6 P05 (io) "P-port input/output. Push-pull design structure.Connect to VCC through a pullup resistor.", 7 P06 (io) "P-port input/output. Push-pull design structure.Connect to VCC through a pullup resistor.", 8 P07 (io) "P-port input/output. Push-pull design structure.Connect to VCC through a pullup resistor.", 9 GND (power) "Ground", 10 P10 (io) "P-port input/output. Push-pull design structure.Connect to VCC through a pullup resistor.", 11 P11 (io) "P-port input/output. Push-pull design structure.Connect to VCC through a pullup resistor.", 12 P12 (io) "P-port input/output. Push-pull design structure.Connect to VCC through a pullup resistor.", 13 P13 (io) "P-port input/output. Push-pull design structure.Connect to VCC through a pullup resistor.", 14 P14 (io) "P-port input/output. Push-pull design structure.Connect to VCC through a pullup resistor.", 15 P15 (io) "P-port input/output. Push-pull design structure.Connect to VCC through a pullup resistor.", 16 P16 (io) "P-port input/output. Push-pull design structure.Connect to VCC through a pullup resistor.", 17 P17 (io) "P-port input/output. Push-pull design structure.Connect to VCC through a pullup resistor.", 18 A0 (in) "Address input 0. Connect directly to VCC or ground. Pullup resistors are not needed.", 19 SCL (in) "Serial clock line. Connect to VCC through a pullup resistor.", 20 SDA (io) "Serial data line. Connect to VCC through a pullup resistor.", 21 VCC (power) "Supply voltage", 22 ~{INT} (oc) "Interrupt output. Connect to VCC through a pullup resistor.", 23 A1 (in) "Address input 1. Connect directly to VCC or ground. Pullup resistors are not needed.", 24 A2 (in) "Address input 2. Connect directly to VCC or ground. Pullup resistors are not needed.", 25 EP "Exposed thermal pad"

## PCF8575C_QSOP24
designator U?, comment PCF8575  (value not drawn)
IC, I2C IO Expander, 16CH, 400KHz; MANF: Texas Instruments; MANF_P#: PCF8575CDBQ; PARAM2: 4.5~5.5VCC; PARAM: 16CH, 400KHz, -40~85oC; VALUE: PCF8575
footprint SOG63_24 (QSOP24, 8.6X3.9mm, 0.635mm pitch)
pins: 1 ~{INT} (oc) "Interrupt output. Connect to VCC through a pullup resistor.", 2 A1 (in) "Address input 1. Connect directly to VCC or ground. Pullup resistors are not needed.", 3 A2 (in) "Address input 2. Connect directly to VCC or ground. Pullup resistors are not needed.", 4 P00 (io) "P-port input/output. Push-pull design structure.Connect to VCC through a pullup resistor.", 5 P01 (io) "P-port input/output. Push-pull design structure.Connect to VCC through a pullup resistor.", 6 P02 (io) "P-port input/output. Push-pull design structure.Connect to VCC through a pullup resistor.", 7 P03 (io) "P-port input/output. Push-pull design structure.Connect to VCC through a pullup resistor.", 8 P04 (io) "P-port input/output. Push-pull design structure.Connect to VCC through a pullup resistor.", 9 P05 (io) "P-port input/output. Push-pull design structure.Connect to VCC through a pullup resistor.", 10 P06 (io) "P-port input/output. Push-pull design structure.Connect to VCC through a pullup resistor.", 11 P07 (io) "P-port input/output. Push-pull design structure.Connect to VCC through a pullup resistor.", 12 GND (power) "Ground", 13 P10 (io) "P-port input/output. Push-pull design structure.Connect to VCC through a pullup resistor.", 14 P11 (io) "P-port input/output. Push-pull design structure.Connect to VCC through a pullup resistor.", 15 P12 (io) "P-port input/output. Push-pull design structure.Connect to VCC through a pullup resistor.", 16 P13 (io) "P-port input/output. Push-pull design structure.Connect to VCC through a pullup resistor.", 17 P14 (io) "P-port input/output. Push-pull design structure.Connect to VCC through a pullup resistor.", 18 P15 (io) "P-port input/output. Push-pull design structure.Connect to VCC through a pullup resistor.", 19 P16 (io) "P-port input/output. Push-pull design structure.Connect to VCC through a pullup resistor.", 20 P17 (io) "P-port input/output. Push-pull design structure.Connect to VCC through a pullup resistor.", 21 A0 (in) "Address input 0. Connect directly to V CC or ground. Pullup resistors are not needed", 22 SCL (in) "Serial clock line. Connect to VCC through a pullup resistor.", 23 SDA (io) "Serial data line. Connect to VCC through a pullup resistor.", 24 VCC (power) "Supply voltage"
text: PCA8575

## PCF8575C_SOP24W
designator U?, comment PCF8575  (value not drawn)
IC, I2C IO Expander, 16CH, 400KHz; MANF: Texas Instruments; MANF_P#: PCF8575CDW; PARAM2: 4.5~5.5VCC; PARAM: 16CH, 400KHz, -40~85oC; VALUE: PCF8575
footprint SO_24_W (SOP, SOIC, 7.5mm width, 1.27mm pitch,)
pins: 1 ~{INT} (oc) "Interrupt output. Connect to VCC through a pullup resistor.", 2 A1 (in) "Address input 1. Connect directly to VCC or ground. Pullup resistors are not needed.", 3 A2 (in) "Address input 2. Connect directly to VCC or ground. Pullup resistors are not needed.", 4 P00 (io) "P-port input/output. Push-pull design structure.Connect to VCC through a pullup resistor.", 5 P01 (io) "P-port input/output. Push-pull design structure.Connect to VCC through a pullup resistor.", 6 P02 (io) "P-port input/output. Push-pull design structure.Connect to VCC through a pullup resistor.", 7 P03 (io) "P-port input/output. Push-pull design structure.Connect to VCC through a pullup resistor.", 8 P04 (io) "P-port input/output. Push-pull design structure.Connect to VCC through a pullup resistor.", 9 P05 (io) "P-port input/output. Push-pull design structure.Connect to VCC through a pullup resistor.", 10 P06 (io) "P-port input/output. Push-pull design structure.Connect to VCC through a pullup resistor.", 11 P07 (io) "P-port input/output. Push-pull design structure.Connect to VCC through a pullup resistor.", 12 GND (power) "Ground", 13 P10 (io) "P-port input/output. Push-pull design structure.Connect to VCC through a pullup resistor.", 14 P11 (io) "P-port input/output. Push-pull design structure.Connect to VCC through a pullup resistor.", 15 P12 (io) "P-port input/output. Push-pull design structure.Connect to VCC through a pullup resistor.", 16 P13 (io) "P-port input/output. Push-pull design structure.Connect to VCC through a pullup resistor.", 17 P14 (io) "P-port input/output. Push-pull design structure.Connect to VCC through a pullup resistor.", 18 P15 (io) "P-port input/output. Push-pull design structure.Connect to VCC through a pullup resistor.", 19 P16 (io) "P-port input/output. Push-pull design structure.Connect to VCC through a pullup resistor.", 20 P17 (io) "P-port input/output. Push-pull design structure.Connect to VCC through a pullup resistor.", 21 A0 (in) "Address input 0. Connect directly to V CC or ground. Pullup resistors are not needed", 22 SCL (in) "Serial clock line. Connect to VCC through a pullup resistor.", 23 SDA (io) "Serial data line. Connect to VCC through a pullup resistor.", 24 VCC (power) "Supply voltage"
text: PCA8575

## PCF8575C_SSOP24
designator U?, comment PCF8575  (value not drawn)
IC, I2C IO Expander, 16CH, 400KHz; MANF: Texas Instruments; MANF_P#: PCF8575CDB; PARAM2: 4.5~5.5VCC; PARAM: 16CH, 400KHz, -40~85oC; VALUE: PCF8575
footprint SOG65_24_W (SSOP24, TSSOP24, SOT340-1, SOT355-1, MO-150AG, MO-153AD(JEDEC),)
pins: 1 ~{INT} (oc) "Interrupt output. Connect to VCC through a pullup resistor.", 2 A1 (in) "Address input 1. Connect directly to VCC or ground. Pullup resistors are not needed.", 3 A2 (in) "Address input 2. Connect directly to VCC or ground. Pullup resistors are not needed.", 4 P00 (io) "P-port input/output. Push-pull design structure.Connect to VCC through a pullup resistor.", 5 P01 (io) "P-port input/output. Push-pull design structure.Connect to VCC through a pullup resistor.", 6 P02 (io) "P-port input/output. Push-pull design structure.Connect to VCC through a pullup resistor.", 7 P03 (io) "P-port input/output. Push-pull design structure.Connect to VCC through a pullup resistor.", 8 P04 (io) "P-port input/output. Push-pull design structure.Connect to VCC through a pullup resistor.", 9 P05 (io) "P-port input/output. Push-pull design structure.Connect to VCC through a pullup resistor.", 10 P06 (io) "P-port input/output. Push-pull design structure.Connect to VCC through a pullup resistor.", 11 P07 (io) "P-port input/output. Push-pull design structure.Connect to VCC through a pullup resistor.", 12 GND (power) "Ground", 13 P10 (io) "P-port input/output. Push-pull design structure.Connect to VCC through a pullup resistor.", 14 P11 (io) "P-port input/output. Push-pull design structure.Connect to VCC through a pullup resistor.", 15 P12 (io) "P-port input/output. Push-pull design structure.Connect to VCC through a pullup resistor.", 16 P13 (io) "P-port input/output. Push-pull design structure.Connect to VCC through a pullup resistor.", 17 P14 (io) "P-port input/output. Push-pull design structure.Connect to VCC through a pullup resistor.", 18 P15 (io) "P-port input/output. Push-pull design structure.Connect to VCC through a pullup resistor.", 19 P16 (io) "P-port input/output. Push-pull design structure.Connect to VCC through a pullup resistor.", 20 P17 (io) "P-port input/output. Push-pull design structure.Connect to VCC through a pullup resistor.", 21 A0 (in) "Address input 0. Connect directly to V CC or ground. Pullup resistors are not needed", 22 SCL (in) "Serial clock line. Connect to VCC through a pullup resistor.", 23 SDA (io) "Serial data line. Connect to VCC through a pullup resistor.", 24 VCC (power) "Supply voltage"
text: PCA8575

## PCF8575C_TSSOP24
designator U?, comment PCF8575  (value not drawn)
IC, I2C IO Expander, 16CH, 400KHz; MANF: Texas Instruments; MANF_P#: PCF8575CPW; PARAM2: 4.5~5.5VCC; PARAM: 16CH, 400KHz, -40~85oC; VALUE: PCF8575
footprint SOG65_24 (PW TSSOP (TI), MO-153-AD (JEDEC), 24Lead, pitch: 0.65mm, 8x4.4x1.2mm)
pins: 1 ~{INT} (oc) "Interrupt output. Connect to VCC through a pullup resistor.", 2 A1 (in) "Address input 1. Connect directly to VCC or ground. Pullup resistors are not needed.", 3 A2 (in) "Address input 2. Connect directly to VCC or ground. Pullup resistors are not needed.", 4 P00 (io) "P-port input/output. Push-pull design structure.Connect to VCC through a pullup resistor.", 5 P01 (io) "P-port input/output. Push-pull design structure.Connect to VCC through a pullup resistor.", 6 P02 (io) "P-port input/output. Push-pull design structure.Connect to VCC through a pullup resistor.", 7 P03 (io) "P-port input/output. Push-pull design structure.Connect to VCC through a pullup resistor.", 8 P04 (io) "P-port input/output. Push-pull design structure.Connect to VCC through a pullup resistor.", 9 P05 (io) "P-port input/output. Push-pull design structure.Connect to VCC through a pullup resistor.", 10 P06 (io) "P-port input/output. Push-pull design structure.Connect to VCC through a pullup resistor.", 11 P07 (io) "P-port input/output. Push-pull design structure.Connect to VCC through a pullup resistor.", 12 GND (power) "Ground", 13 P10 (io) "P-port input/output. Push-pull design structure.Connect to VCC through a pullup resistor.", 14 P11 (io) "P-port input/output. Push-pull design structure.Connect to VCC through a pullup resistor.", 15 P12 (io) "P-port input/output. Push-pull design structure.Connect to VCC through a pullup resistor.", 16 P13 (io) "P-port input/output. Push-pull design structure.Connect to VCC through a pullup resistor.", 17 P14 (io) "P-port input/output. Push-pull design structure.Connect to VCC through a pullup resistor.", 18 P15 (io) "P-port input/output. Push-pull design structure.Connect to VCC through a pullup resistor.", 19 P16 (io) "P-port input/output. Push-pull design structure.Connect to VCC through a pullup resistor.", 20 P17 (io) "P-port input/output. Push-pull design structure.Connect to VCC through a pullup resistor.", 21 A0 (in) "Address input 0. Connect directly to V CC or ground. Pullup resistors are not needed", 22 SCL (in) "Serial clock line. Connect to VCC through a pullup resistor.", 23 SDA (io) "Serial data line. Connect to VCC through a pullup resistor.", 24 VCC (power) "Supply voltage"
text: PCA8575

## PCF8575C_TVSOP24
designator U?, comment PCF8575  (value not drawn)
IC, I2C IO Expander, 16CH, 400KHz; MANF: Texas Instruments; MANF_P#: PCF8575CDGV; PARAM2: 4.5~5.5VCC; PARAM: 16CH, 400KHz, -40~85oC; VALUE: PCF8575
footprint SOG40_24
pins: 1 ~{INT} (oc) "Interrupt output. Connect to VCC through a pullup resistor.", 2 A1 (in) "Address input 1. Connect directly to VCC or ground. Pullup resistors are not needed.", 3 A2 (in) "Address input 2. Connect directly to VCC or ground. Pullup resistors are not needed.", 4 P00 (io) "P-port input/output. Push-pull design structure.Connect to VCC through a pullup resistor.", 5 P01 (io) "P-port input/output. Push-pull design structure.Connect to VCC through a pullup resistor.", 6 P02 (io) "P-port input/output. Push-pull design structure.Connect to VCC through a pullup resistor.", 7 P03 (io) "P-port input/output. Push-pull design structure.Connect to VCC through a pullup resistor.", 8 P04 (io) "P-port input/output. Push-pull design structure.Connect to VCC through a pullup resistor.", 9 P05 (io) "P-port input/output. Push-pull design structure.Connect to VCC through a pullup resistor.", 10 P06 (io) "P-port input/output. Push-pull design structure.Connect to VCC through a pullup resistor.", 11 P07 (io) "P-port input/output. Push-pull design structure.Connect to VCC through a pullup resistor.", 12 GND (power) "Ground", 13 P10 (io) "P-port input/output. Push-pull design structure.Connect to VCC through a pullup resistor.", 14 P11 (io) "P-port input/output. Push-pull design structure.Connect to VCC through a pullup resistor.", 15 P12 (io) "P-port input/output. Push-pull design structure.Connect to VCC through a pullup resistor.", 16 P13 (io) "P-port input/output. Push-pull design structure.Connect to VCC through a pullup resistor.", 17 P14 (io) "P-port input/output. Push-pull design structure.Connect to VCC through a pullup resistor.", 18 P15 (io) "P-port input/output. Push-pull design structure.Connect to VCC through a pullup resistor.", 19 P16 (io) "P-port input/output. Push-pull design structure.Connect to VCC through a pullup resistor.", 20 P17 (io) "P-port input/output. Push-pull design structure.Connect to VCC through a pullup resistor.", 21 A0 (in) "Address input 0. Connect directly to V CC or ground. Pullup resistors are not needed", 22 SCL (in) "Serial clock line. Connect to VCC through a pullup resistor.", 23 SDA (io) "Serial data line. Connect to VCC through a pullup resistor.", 24 VCC (power) "Supply voltage"
text: PCA8575

## TCA6408A_QFN16_RGT
designator U?, comment TCA6408  (value not drawn)
IC, I2C IO Expander, 8CH, 5V TOL, 400KHz; MANF: Texas Instruments; MANF_P#: TCA6408ARGT; PARAM2: 1.65~5.5VCC; PARAM: 8CH, 5V TOL, 400KHz, -40~85oC; VALUE: TCA6408
footprint QFN50_16_3X3 (LPCC, 16-lead, pitch: 0.5mm, 3x3mm)
pins: 1 ~{RESET} (in) "Active-low reset input. Connect to VCC  through a pullup resistor, if no active connection is used.", 2 P0 (io) "P-port input/output. (Push-pull design structure.) At power on, P0 is configured as an input.", 3 P1 (io) "P-port input/output. (Push-pull design structure.) At power on, P1 is configured as an input.", 4 P2 (io) "P-port input/output. (Push-pull design structure.) At power on, P2 is configured as an input.", 5 P3 (io) "P-port input/output. (Push-pull design structure.) At power on, P3 is configured as an input.", 6 GND (power) "Ground", 7 P4 (io) "P-port input/output. (Push-pull design structure.) At power on, P4 is configured as an input.", 8 P5 (io) "P-port input/output. (Push-pull design structure.) At power on, P5 is configured as an input.", 9 P6 (io) "P-port input/output. (Push-pull design structure.) At power on, P6 is configured as an input.", 10 P7 (io) "P-port input/output. (Push-pull design structure.) At power on, P7 is configured as an input.", 11 ~{INT} (oc) "Interrupt output. Connect to VCCI through a pullup resistor.", 12 SCL (in) "Serial clock bus. Connect to VCCI through a pullup resistor.", 13 SDA (io) "Serial data bus. Connect to VCCI through a pullup resistor.", 14 VCCP (power) "Supply voltage of TCA6408A for P port", 15 VCCI (power) "Supply voltage of I2C bus. Connect directly to the VCCI of the external I2C master. Provides voltage leveltranslation", 16 ADDR (in) "Address input. Connect directly to VCCI or ground", 17 EP "Exposed thermal pad"